# Altium schematic symbol library Lib.SchLib: 14 symbols
Pins are listed as number, name and electrical type; pins without a type are passive.

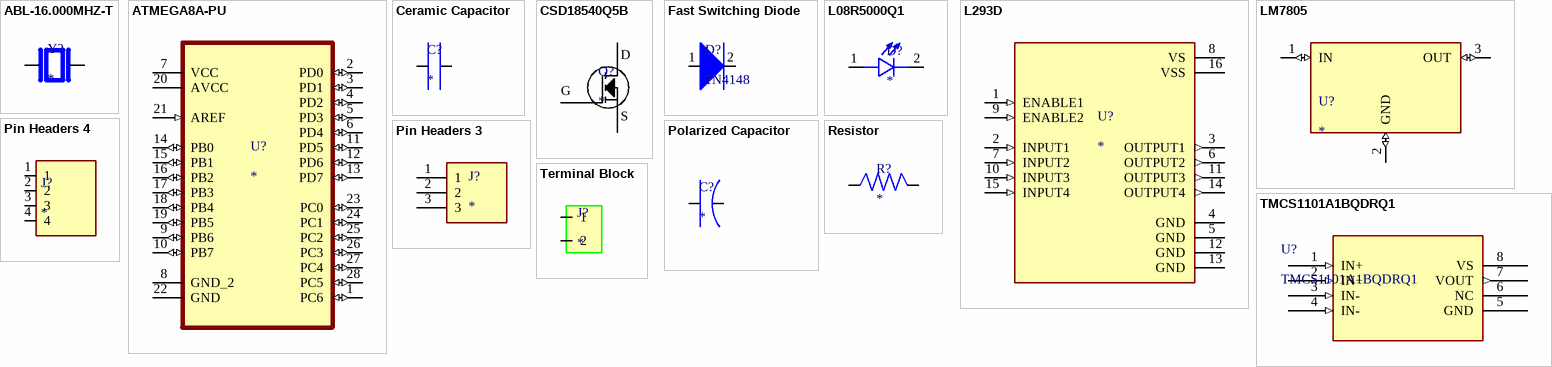
[diagram p0: symbols ABL-16.000MHZ-T to TMCS1101A1BQDRQ1]

## ABL-16.000MHZ-T
designator Y?
16 MHz Â±10ppm Crystal 18pF 40 Ohms HC-49/US; MF: Abracon Corporation; MP: ABL-16.000MHZ; Package: None; Purchase-URL: https://pricing.snapeda.com/search/part/ABL-16.000MHZ/?ref=eda; Value: *; Availability: In Stock; SnapEDA_Link: https://www.snapeda.com/parts/ABL-16.000MHZ/Abracon/view-part/?ref=snap; Price: None; Check_prices: https://www.snapeda.com/parts/ABL-16.000MHZ/Abracon/view-part/?ref=eda
footprint XTAL_HC49P488W46L1150T500H350
pins: 1, 2

## ATMEGA8A-PU
designator U?
AVR AVRÂ® ATmega Microcontroller IC 8-Bit 16MHz 8KB _4K x 16_ FLASH 28-PDIP; MP: ATMEGA8A-PU; MF: Microchip; Availability: Unavailable; SnapEDA_Link: https://www.snapeda.com/parts/ATMEGA8A-PU/Microchip/view-part/586389/?ref=snap; Price: None; Value: *; Package: DIP-28 Microchip
footprint DIP254P762X457-28
footprint ATmega8
pins: 1 PC6 (io), 2 PD0 (io), 3 PD1 (io), 4 PD2 (io), 5 PD3 (io), 6 PD4 (io), 7 VCC (power), 8 GND_2, 9 PB6 (io), 10 PB7 (io), 11 PD5 (io), 12 PD6 (io), 13 PD7 (io), 14 PB0 (io), 15 PB1 (io), 16 PB2 (io), 17 PB3 (io), 18 PB4 (io), 19 PB5 (io), 20 AVCC (power), 21 AREF (in), 22 GND, 23 PC0 (io), 24 PC1 (io), 25 PC2 (io), 26 PC3 (io), 27 PC4 (io), 28 PC5 (io)

## Ceramic Capacitor
designator C?
footprint THT Ceramic Capacitor
footprint SMD Capacitor
footprint SMD-C0402
footprint SMD-C0603
footprint SMD-C0805
footprint SMD-C1206
pins: 1, 2

## CSD18540Q5B
designator Q?
N-Type MOSFET
footprint CSD18540Q5B
pins: 1 S (power), 2 G (power), 3 D (power)

## Fast Switching Diode
designator D?, comment 1N4148
DIODE GEN PURP 100V 200MA DO35; Manufacturer 1: ON Semiconductor / Fairchild; Reverse Recovery Time: 4ns; Element Configuration: Single; Forward Voltage: 1V; Forward Current: 300mA; Peak Non-Repetitive Surge Current: 4A; Max Reverse Current: 5uA; Power Dissipation: 500mW; Max Forward Surge Current (Ifsm): 1A; Polarity: Standard; Capacitance: 4pF; Outside Diameter: 1.85mm; Supplier 1: Digi-Key; Manufacturer Part Number 1: 1N4148; RoHS: Yes; Category: Integrated Circuits (ICs); Stock 1: 379230; Pricing 1: 1=0.10000, 10=0.08200, 100=0.04470, 500=0.02752, 1000=0.01876, 2000=0.01595, 5000=0.01438, 10000=0.01251, 50000=0.01001 (USD); Mount: Through Hole; Case/Package: DO-35; Number of Pins: 2; Weight: 0.01lb; Contact Plating: Tin,Matte; Min Operating Temperature: -65°C; Max Operating Temperature: 175°C; Packaging: Bulk; Max Repetitive Reverse Voltage (Vrrm): 100V; Average Rectified Current: 200mA; Max Reverse Voltage (DC): 100V; Package Quantity: 2000; Recovery Time: 4ns; Series: -; Max Surge Current: 4A; Current Rating: 200mA; Max Power Dissipation: 500mW; Voltage Rating (DC): 100V; Output Current: 200mA; Voltage: 100V; Current: 4A; Reverse Voltage: 100V; Diameter: 1.91mm; Length: 4.56mm; Width: 1.91mm; Height: 4.56mm; Radiation Hardening: No; Lead Free: Lead Free; RoHS Compliant: Yes; REACH SVHC: No SVHC; ComponentLink1URL: https://datasheet.ciiva.com/27049/743285-27049708.pdf?src-supplier=Jameco; ComponentLink1Description: https://datasheet.ciiva.com/27049/743285-27049708.pdf?src-supplier=Jameco; ComponentLink2URL: https://datasheet.ciiva.com/1242/1716967-1242233.pdf?src-supplier=Newark; ComponentLink2Description: https://datasheet.ciiva.com/1242/1716967-1242233.pdf?src-supplier=Newark; ComponentLink3URL: https://datasheet.ciiva.com/910/1n914-910546.pdf?src-supplier=Digi-Key; ComponentLink3Description: https://datasheet.ciiva.com/910/1n914-910546.pdf?src-supplier=Digi-Key; ComponentLink4URL: https://datasheet.ciiva.com/3304/fdll914b-3304217.pdf?src-supplier=Avnet; ComponentLink4Description: https://datasheet.ciiva.com/3304/fdll914b-3304217.pdf?src-supplier=Avnet; ComponentLink5URL: https://datasheet.ciiva.com/25951/fdll914b-25951516.pdf?; ComponentLink5Description: https://datasheet.ciiva.com/25951/fdll914b-25951516.pdf?
footprint FSD
pins: 1, 2

## L08R5000Q1
designator D?
LED, Orange, Through Hole, T-1 3/4 (5mm), 30 mA, 2.1 V, 635 nm; MP: L08R5000Q1; Price: None; Value: *; Availability: Unavailable; Package: None
footprint LEDRD254W57D500H1070
pins: 1 A, 2 C

## L293D
designator U?
Bipolar Motor Driver Parallel 16-PowerDIP; MP: L293D; MF: STMicroelectronics; Availability: Unavailable; SnapEDA_Link: https://www.snapeda.com/parts/L293D/STMicroelectronics/view-part/83726/?ref=snap; Price: None; Package: SOIC-20 STMicroelectronics; Value: *
footprint L293D
pins: 1 ENABLE1 (in), 2 INPUT1 (in), 3 OUTPUT1 (out), 4 GND (power), 5 GND (power), 6 OUTPUT2 (out), 7 INPUT2 (in), 8 VS (power), 9 ENABLE2 (in), 10 INPUT3 (in), 11 OUTPUT3 (out), 12 GND (power), 13 GND (power), 14 OUTPUT4 (out), 15 INPUT4 (in), 16 VSS (power)

## LM7805
designator U?
MP: LM7805; Package: None; Availability: Unavailable; Value: *; Price: None
footprint TO220
pins: 1 IN (io), 2 GND (io), 3 OUT (io)

## Pin Headers 3
designator J?
THT Vertical Pin Header WR-PHD, Pitch 2.00 mm, Single Row, 3 pins; Manufacturer 1: Wurth Electronics; Manufacturer Part Number 1: 62000311121; Gender: Male; Supplier 1: Digi-Key; RoHS: Yes; Stock 1: 722; Pricing 1: 1=0.35000, 50=0.31600, 100=0.29400, 250=0.27100, 500=0.26000, 1000=0.21500 (USD); Contact Material: Copper Alloy
footprint PIN Headers 3
pins: 1, 2, 3

## Pin Headers 4
designator J?
Headers & Wire Housings Variable Post Height Header Strips, 2.00 mm Pitch; Manufacturer 1: Samtec; Manufacturer Part Number 1: MTMM-104-08-S-S-330; Number of Contacts: 4; Gender: Male; Pitch: 2mm; Supplier 1: Digi-Key; RoHS: Yes; Category: Connectors; Stock 1: 1213; Pricing 1: 1=2.01000, 10=1.75200, 100=1.56560, 500=1.30462, 1000=1.11825, 5000=0.99400 (USD); Mount: Through Hole; Contact Plating: Gold; Packaging: Bulk; Number of Rows: 1; Termination: Solder; Radiation Hardening: No; RoHS Compliant: Yes; ComponentLink1URL: http://www.samtec.com/documents/webfiles/pdf/MTMM_TH.PDF?src-supplier=Avnet; ComponentLink1Description: http://www.samtec.com/documents/webfiles/pdf/MTMM_TH.PDF?src-supplier=Avnet
footprint PIN Headers 4
pins: 1, 2, 3, 4

## Polarized Capacitor
designator C?
footprint SMD Polarized Capacitor
footprint THH Capacitor
footprint CAPPRD500W60D800H1150
footprint EXV106M025A9BAA
pins: 1 +, 2 -

## Resistor
designator R?
Value: *
footprint THT Resistor
footprint SMD Resistor
footprint RESAD700W45L350D185
footprint SMD-R0402
footprint SMD-R0603
footprint SMD-R0805
footprint SMD-R1206
pins: 1, 2

## Terminal Block
designator J?
Generic 2 Pin Terminal Block
footprint Terminal Block
pins: 1, 2

## TMCS1101A1BQDRQ1
designator U?
Current Sensor; Mfr_Name: Texas Instruments; Copyright: Copyright (C) 2022 Ultra Librarian. All rights reserved.; Manufacturer_Part_Number: TMCS1101A1BQDRQ1; RefDes: RefDes; Type: DEV
footprint SOIC8_D_TEX
footprint SOIC8_D_TEX-L
footprint SOIC8_D_TEX-M
pins: 1 IN+ (in), 2 IN+ (in), 3 IN- (in), 4 IN- (in), 5 GND, 6 NC, 7 VOUT (out), 8 VS (power)